# Altium footprint library MyFootprints.PcbLib: 2 footprints
Each footprint in its own frame and in the unit in brackets; x right, y up, seen from the top. Pads: shape width x height; smd on the part's side, far side on the other; paste and mask are expansions set on the pad; w line width, h text height; cw(c..) or ccw(c..) is an arc to the next point about the centre after c.
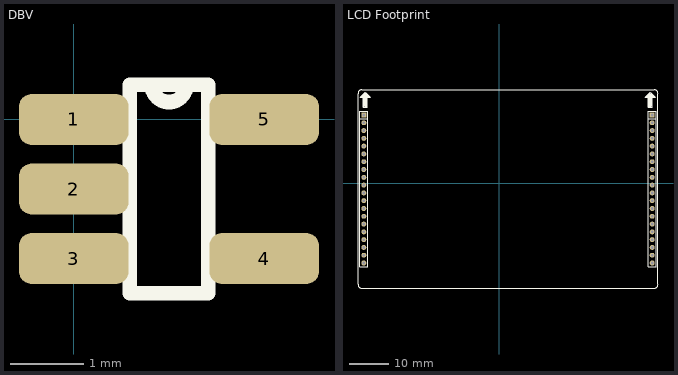
[diagram p0: the footprints below, top view; thin cyan lines are the x and y axes]

## DBV [mil]
pads (5):
  rrect50% 59x27.55 smd: 1(0,0) 2(0,-37.4) 3(0,-74.8) 4(102.36,-74.8) 5(102.36,0)
Top Overlay:
  lines w7.87: 30.12,-93.5 72.24,-93.5 72.24,18.7 41.83,18.7 ccw(c51.18,18.7) 60.53,18.7 30.12,18.7 30.12,-93.5

## LCD Footprint [mm]
pads (40):
  rect 1.27x1.27 hole 0.7: 1(-34.798,17.526) 21(39.202,17.526)
  round 1.27 hole 0.7: 2(-34.798,15.526) 3(-34.798,13.526) 4(-34.798,11.526) 5(-34.798,9.526) 6(-34.798,7.526) 7(-34.798,5.526) 8(-34.798,3.526) 9(-34.798,1.526) 10(-34.798,-0.474) 11(-34.798,-2.474) 12(-34.798,-4.474) 13(-34.798,-6.474) 14(-34.798,-8.474) 15(-34.798,-10.474) 16(-34.798,-12.474) 17(-34.798,-14.474) 18(-34.798,-16.474) 19(-34.798,-18.474) 20(-34.798,-20.474) 22(39.202,15.526) 23(39.202,13.526) 24(39.202,11.526) 25(39.202,9.526) 26(39.202,7.526) 27(39.202,5.526) 28(39.202,3.526) 29(39.202,1.526) 30(39.202,-0.474) 31(39.202,-2.474) 32(39.202,-4.474) 33(39.202,-6.474) 34(39.202,-8.474) 35(39.202,-10.474) 36(39.202,-12.474) 37(39.202,-14.474) 38(39.202,-16.474) 39(39.202,-18.474) 40(39.202,-20.474)
Top Overlay:
  lines w0.2: -35.798,16.526 -33.798,16.526 ; 38.202,16.526 40.202,16.526 ; -35.798,-21.474 -35.798,18.526 -33.798,18.526 -33.798,-21.474 -35.798,-21.474 ; 38.202,-21.474 38.202,18.526 40.202,18.526 40.202,-21.474 38.202,-21.474
  lines w0.254: -35.506,22.218 -35.09,22.218 ; -35.255,22.469 -33.568,22.469 ; -35.064,22.66 -33.827,22.66 ; -34.981,22.743 -33.815,22.743 ; -34.751,22.973 -34.109,22.973 ; -34.698,19.626 -34.698,22.026 ; -34.509,23.215 -34.287,23.215 ; -34.498,19.726 -34.498,22.218 ; -34.298,19.526 -34.298,22.026 ; -34.098,19.526 -34.098,22.218 ; -33.381,22.218 -35.09,22.218 ; 37.576,22.2 39.792,22.2 ; 37.805,22.429 39.52,22.429 ; 38.06,22.684 39.29,22.684 ; 38.315,22.939 39.089,22.939 ; 38.402,19.526 38.402,22.2 ; 38.539,23.163 38.579,23.163 38.802,22.939 ; 38.602,19.626 38.602,22.2 ; 38.802,19.526 38.802,22.2 ; 39.002,19.726 39.002,22.2 ; -35.09,22.218 -34.898,22.026 ; -34.898,22.026 -35.698,22.026 -34.398,23.326 -33.098,22.026 -33.898,22.026 ; -34.898,22.026 -34.898,19.526 -33.898,19.526 -33.898,22.026 ; -34.898,22.026 -33.898,22.026 ; -36.298,-25.974 ccw(c-35.298,-25.974) -35.298,-26.974 39.702,-26.974 ccw(c39.702,-25.974) 40.702,-25.974 40.702,23.026 ccw(c39.702,23.026) 39.702,24.026 -35.298,24.026 ccw(c-35.298,23.026) -36.298,23.026 -36.298,-25.974 ; 37.402,22.026 38.702,23.326 40.002,22.026 39.202,22.026 39.202,19.526 38.202,19.526 38.202,22.026 37.402,22.026